# Altium integrated library Micron Memory Parallel NOR Flash.IntLib: 720 symbols (part 120 of 216)
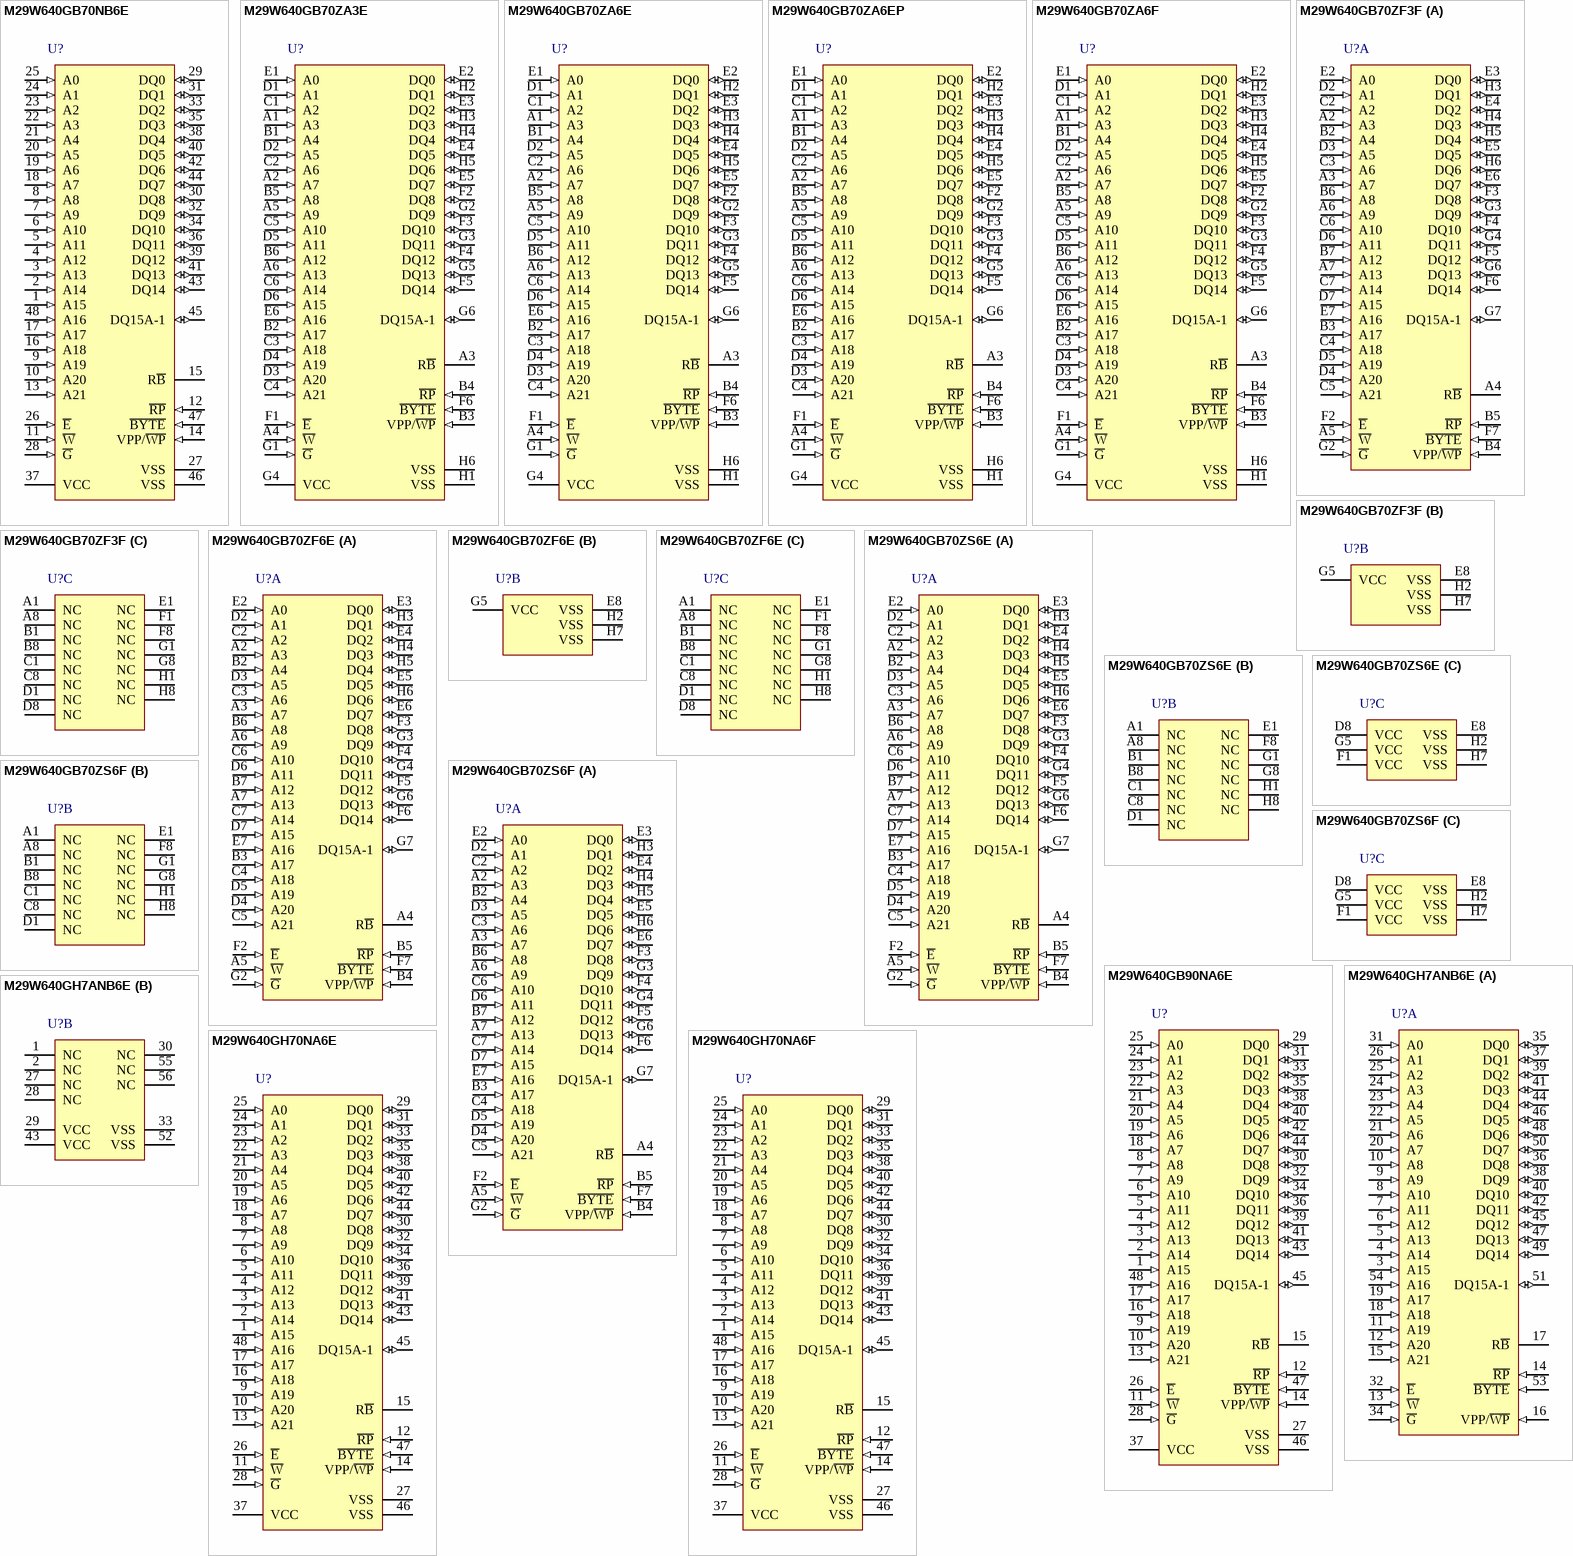
[diagram p163: symbols M29W640GB70NB6E to M29W640GH70NA6F]

## M29W640GB70ZF6E
designator U?
64 Mb (x8/x16) Parallel NOR Flash Memory, 70 ns, 2.7 to 3.6 V, 64-ball TBGA (ZF), Tray; Part Family: M29W; Manufacturer: Micron; PartNumber: M29W640GB70ZF6E; Density: 64Mb; Op Temp: -40C to +85C; Speed: 70ns; Voltage: 2.7V-3.6V; DatasheetVersion: Rev. 11; PackageVersion: Rev 11; PackageReference: MICT-ZF-64; PackageDescription: 64-Ball TBGA, 10 X 13 mm, Pitch 1 mm; RoHS: Yes; Width: x8/x16; Mounting Technology: Surface Mount; ComponentLink1Description: Manufacturer URL; ComponentLink1URL: http://www.micron.com/; ComponentLink2Description: Datasheet; ComponentLink2URL: http://www.micron.com/~/media/Documents/Products/Data%20Sheet/NOR%20Flash/Parallel/P33/208034_P33_65nm_SBC_64M_128M_Discrete_DS.pdf; ComponentLink3Description: Package Specification; ComponentLink3URL: http://www.micron.com/~/media/Documents/Products/Data%20Sheet/NOR%20Flash/Parallel/P33/208034_P33_65nm_SBC_64M_128M_Discrete_DS.pdf
footprint MICT-ZF-64 (BGA, 64-Balls, Body 13x10mm, Pitch 1mm)
part A pins: A2 A3 (in) "The Address Inputs select the cells in the memory array to access during bus read operations. During bus write operations they control the commands sent to the command interface of the program/erase controller.", A3 A7 (in) "The Address Inputs select the cells in the memory array to access during bus read operations. During bus write operations they control the commands sent to the command interface of the program/erase controller.", A4 R~{B} (hiz) "The ready/busy pin is an open-drain output that can be used to identify when the device is performing a program or erase operation. During program or erase operations ready/busy is Low, VOL (see Table 20: Status register (See Datasheet)", A5 ~{W} (in) "The Write Enable, W\, controls the bus write operation of the memory’s command interface.", A6 A9 (in) "The Address Inputs select the cells in the memory array to access during bus read operations. During bus write operations they control the commands sent to the command interface of the program/erase controller.", A7 A13 (in) "The Address Inputs select the cells in the memory array to access during bus read operations. During bus write operations they control the commands sent to the command interface of the program/erase controller.", B2 A4 (in) "The Address Inputs select the cells in the memory array to access during bus read operations. During bus write operations they control the commands sent to the command interface of the program/erase controller.", B3 A17 (in) "The Address Inputs select the cells in the memory array to access during bus read operations. During bus write operations they control the commands sent to the command interface of the program/erase controller.", B4 VPP/~{WP} (in) "The VPP/Write Protect pin provides two functions. The VPP function allows the memory to use an external high voltage power supply to reduce the time required for Unlock Bypass Program operations. The Write Protect function (See Datasheet)", B5 ~{RP} (in) "The reset pin can be used to apply a hardware reset to the memory. A hardware reset is achieved by holding reset Low, VIL, for at least tPLPX. After reset goes High, VIH, the memory will be ready for bus read and bus write (See Datasheet)", B6 A8 (in) "The Address Inputs select the cells in the memory array to access during bus read operations. During bus write operations they control the commands sent to the command interface of the program/erase controller.", B7 A12 (in) "The Address Inputs select the cells in the memory array to access during bus read operations. During bus write operations they control the commands sent to the command interface of the program/erase controller.", C2 A2 (in) "The Address Inputs select the cells in the memory array to access during bus read operations. During bus write operations they control the commands sent to the command interface of the program/erase controller.", C3 A6 (in) "The Address Inputs select the cells in the memory array to access during bus read operations. During bus write operations they control the commands sent to the command interface of the program/erase controller.", C4 A18 (in) "The Address Inputs select the cells in the memory array to access during bus read operations. During bus write operations they control the commands sent to the command interface of the program/erase controller.", C5 A21 (in) "The Address Inputs select the cells in the memory array to access during bus read operations. During bus write operations they control the commands sent to the command interface of the program/erase controller.", C6 A10 (in) "The Address Inputs select the cells in the memory array to access during bus read operations. During bus write operations they control the commands sent to the command interface of the program/erase controller.", C7 A14 (in) "The Address Inputs select the cells in the memory array to access during bus read operations. During bus write operations they control the commands sent to the command interface of the program/erase controller.", D2 A1 (in) "The Address Inputs select the cells in the memory array to access during bus read operations. During bus write operations they control the commands sent to the command interface of the program/erase controller.", D3 A5 (in) "The Address Inputs select the cells in the memory array to access during bus read operations. During bus write operations they control the commands sent to the command interface of the program/erase controller.", D4 A20 (in) "The Address Inputs select the cells in the memory array to access during bus read operations. During bus write operations they control the commands sent to the command interface of the program/erase controller.", D5 A19 (in) "The Address Inputs select the cells in the memory array to access during bus read operations. During bus write operations they control the commands sent to the command interface of the program/erase controller.", D6 A11 (in) "The Address Inputs select the cells in the memory array to access during bus read operations. During bus write operations they control the commands sent to the command interface of the program/erase controller.", D7 A15 (in) "The Address Inputs select the cells in the memory array to access during bus read operations. During bus write operations they control the commands sent to the command interface of the program/erase controller.", E2 A0 (in) "The Address Inputs select the cells in the memory array to access during bus read operations. During bus write operations they control the commands sent to the command interface of the program/erase controller.", E3 DQ0 (io) "The Data I/O outputs the data stored at the selected address during a bus read operation. During bus write operations they represent the commands sent to the command interface of the program/erase controller.", E4 DQ2 (io) "The Data I/O outputs the data stored at the selected address during a bus read operation. During bus write operations they represent the commands sent to the command interface of the program/erase controller.", E5 DQ5 (io) "The Data I/O outputs the data stored at the selected address during a bus read operation. During bus write operations they represent the commands sent to the command interface of the program/erase controller.", E6 DQ7 (io) "The Data I/O outputs the data stored at the selected address during a bus read operation. During bus write operations they represent the commands sent to the command interface of the program/erase controller.", E7 A16 (in) "The Address Inputs select the cells in the memory array to access during bus read operations. During bus write operations they control the commands sent to the command interface of the program/erase controller.", F2 ~{E} (in) "The Chip Enable, E\, activates the memory, allowing bus read and bus write operations to be performed. When Chip Enable is High, VIH, all other pins are ignored.", F3 DQ8 (io) "The Data I/O outputs the data stored at the selected address during a bus read operation when B\Y\T\E\ is High, VIH. When B\Y\T\E\ is Low, VIL, these pins are not used and are high impedance. During bus write operations the (See Datasheet)", F4 DQ10 (io) "The Data I/O outputs the data stored at the selected address during a bus read operation when B\Y\T\E\ is High, VIH. When B\Y\T\E\ is Low, VIL, these pins are not used and are high impedance. During bus write operations the (See Datasheet)", F5 DQ12 (io) "The Data I/O outputs the data stored at the selected address during a bus read operation when B\Y\T\E\ is High, VIH. When B\Y\T\E\ is Low, VIL, these pins are not used and are high impedance. During bus write operations the (See Datasheet)", F6 DQ14 (io) "The Data I/O outputs the data stored at the selected address during a bus read operation when B\Y\T\E\ is High, VIH. When B\Y\T\E\ is Low, VIL, these pins are not used and are high impedance. During bus write operations the (See Datasheet)", F7 ~{BYTE} (in) "The Byte/Word Organization Select pin is used to switch between the x8 and x16 bus modes of the memory. When Byte/Word Organization Select is Low, VIL, the memory is in x8 mode, when it is High, VIH, the memory is in x16 (See Datasheet)", G2 ~{G} (in) "The Output Enable, G\, controls the bus read operation of the memory.", G3 DQ9 (io) "The Data I/O outputs the data stored at the selected address during a bus read operation when B\Y\T\E\ is High, VIH. When B\Y\T\E\ is Low, VIL, these pins are not used and are high impedance. During bus write operations the (See Datasheet)", G4 DQ11 (io) "The Data I/O outputs the data stored at the selected address during a bus read operation when B\Y\T\E\ is High, VIH. When B\Y\T\E\ is Low, VIL, these pins are not used and are high impedance. During bus write operations the (See Datasheet)", G6 DQ13 (io) "The Data I/O outputs the data stored at the selected address during a bus read operation when B\Y\T\E\ is High, VIH. When B\Y\T\E\ is Low, VIL, these pins are not used and are high impedance. During bus write operations the (See Datasheet)", G7 DQ15A-1 (io) "When B\Y\T\E\ is High, VIH, this pin behaves as a Data Input/Output pin (as DQ8-DQ14). When BYTE is Low, VIL, this pin behaves as an address pin; DQ15A-1 Low will select the LSB of the addressed word, DQ15A-1 High will (See Datasheet)", H3 DQ1 (io) "The Data I/O outputs the data stored at the selected address during a bus read operation. During bus write operations they represent the commands sent to the command interface of the program/erase controller.", H4 DQ3 (io) "The Data I/O outputs the data stored at the selected address during a bus read operation. During bus write operations they represent the commands sent to the command interface of the program/erase controller.", H5 DQ4 (io) "The Data I/O outputs the data stored at the selected address during a bus read operation. During bus write operations they represent the commands sent to the command interface of the program/erase controller.", H6 DQ6 (io) "The Data I/O outputs the data stored at the selected address during a bus read operation. During bus write operations they represent the commands sent to the command interface of the program/erase controller."
part B pins: E8 VSS (power) "VSS is the reference for all voltage measurements. The device features two VSS pins both of which must be connected to the system ground.", G5 VCC (power) "VCC provides the power supply for all operations (read, program and erase). The command interface is disabled when the VCC supply voltage is less than the lockout voltage, VLKO. This prevents bus write operations from (See Datasheet)", H2 VSS (power) "VSS is the reference for all voltage measurements. The device features two VSS pins both of which must be connected to the system ground.", H7 VSS (power) "VSS is the reference for all voltage measurements. The device features two VSS pins both of which must be connected to the system ground."
part C pins: A1 NC "Not connected internally", A8 NC "Not connected internally", B1 NC "Not connected internally", B8 NC "Not connected internally", C1 NC "Not connected internally", C8 NC "Not connected internally", D1 NC "Not connected internally", D8 NC "Not connected internally", E1 NC "Not connected internally", F1 NC "Not connected internally", F8 NC "Not connected internally", G1 NC "Not connected internally", G8 NC "Not connected internally", H1 NC "Not connected internally", H8 NC "Not connected internally"

## M29W640GB70ZS6E
designator U?
64 Mb (x8/x16) Parallel NOR Flash Memory, 70 ns, 2.7 to 3.6 V, 64-ball FBGA (ZS), Tray; Part Family: M29W; Manufacturer: Micron; PartNumber: M29W640GB70ZS6E; Density: 64Mb; Op Temp: -40C to +85C; Speed: 70ns; Voltage: 2.7V-3.6V; DatasheetVersion: Rev. 11; PackageVersion: Rev. 11; PackageReference: MICT-ZS-64; PackageDescription: 64-Ball FBGA, 11 X 13 mm, Pitch 1 mm; RoHS: Yes; Width: x8/x16; Mounting Technology: Surface Mount; ComponentLink1Description: Manufacturer URL; ComponentLink1URL: http://www.micron.com/; ComponentLink2Description: Datasheet; ComponentLink2URL: http://www.micron.com/~/media/Documents/Products/Data%20Sheet/NOR%20Flash/Parallel/P33/208034_P33_65nm_SBC_64M_128M_Discrete_DS.pdf; ComponentLink3Description: Package Specification; ComponentLink3URL: http://www.micron.com/~/media/Documents/Products/Data%20Sheet/NOR%20Flash/Parallel/P33/208034_P33_65nm_SBC_64M_128M_Discrete_DS.pdf
footprint MICT-ZS-64 (BGA, 64-Balls, Body 13x11mm, Pitch 1mm)
part A pins: A2 A3 (in) "Address Input:The Address Input select the cells in the memory array to access during bus read operations. During bus write operations they control the commands sent to the command interface of the program/erase controller.", A3 A7 (in) "Address Input:The Address Input select the cells in the memory array to access during bus read operations. During bus write operations they control the commands sent to the command interface of the program/erase controller.", A4 R~{B} (hiz) "Ready/Busy Output:The Ready/Busy pin is an open-drain output that can be used to identify when the device is performing a program or erase operation. During program or erase operations Ready/Busy is Low, VOL. Ready/Busy is (See Datasheet)", A5 ~{W} (in) "Write Enable:The Write Enable, W\, controls the bus write operation of the memory’s command interface.", A6 A9 (in) "Address Input:The Address Input select the cells in the memory array to access during bus read operations. During bus write operations they control the commands sent to the command interface of the program/erase controller.", A7 A13 (in) "Address Input:The Address Input select the cells in the memory array to access during bus read operations. During bus write operations they control the commands sent to the command interface of the program/erase controller.", B2 A4 (in) "Address Input:The Address Input select the cells in the memory array to access during bus read operations. During bus write operations they control the commands sent to the command interface of the program/erase controller.", B3 A17 (in) "Address Input:The Address Input select the cells in the memory array to access during bus read operations. During bus write operations they control the commands sent to the command interface of the program/erase controller.", B4 VPP/~{WP} (in) "VPP/Write Protect:The VPP/Write Protect pin provides two functions. The VPP function allows the memory to use an external high voltage power supply to reduce the time required for Unlock Bypass Program operations. The Write (See Datasheet)", B5 ~{RP} (in) "Reset/Block Temporary Unprotect:The Reset/Block Temporary Unprotect pin can be used to apply a hardware reset to the memory or to temporarily unprotect all blocks that have been protected. Note that if VPP/W\P\ is at VIL, (See Datasheet)", B6 A8 (in) "Address Input:The Address Input select the cells in the memory array to access during bus read operations. During bus write operations they control the commands sent to the command interface of the program/erase controller.", B7 A12 (in) "Address Input:The Address Input select the cells in the memory array to access during bus read operations. During bus write operations they control the commands sent to the command interface of the program/erase controller.", C2 A2 (in) "Address Input:The Address Input select the cells in the memory array to access during bus read operations. During bus write operations they control the commands sent to the command interface of the program/erase controller.", C3 A6 (in) "Address Input:The Address Input select the cells in the memory array to access during bus read operations. During bus write operations they control the commands sent to the command interface of the program/erase controller.", C4 A18 (in) "Address Input:The Address Input select the cells in the memory array to access during bus read operations. During bus write operations they control the commands sent to the command interface of the program/erase controller.", C5 A21 (in) "Address Input:The Address Input select the cells in the memory array to access during bus read operations. During bus write operations they control the commands sent to the command interface of the program/erase controller.", C6 A10 (in) "Address Input:The Address Input select the cells in the memory array to access during bus read operations. During bus write operations they control the commands sent to the command interface of the program/erase controller.", C7 A14 (in) "Address Input:The Address Input select the cells in the memory array to access during bus read operations. During bus write operations they control the commands sent to the command interface of the program/erase controller.", D2 A1 (in) "Address Input:The Address Input select the cells in the memory array to access during bus read operations. During bus write operations they control the commands sent to the command interface of the program/erase controller.", D3 A5 (in) "Address Input:The Address Input select the cells in the memory array to access during bus read operations. During bus write operations they control the commands sent to the command interface of the program/erase controller.", D4 A20 (in) "Address Input:The Address Input select the cells in the memory array to access during bus read operations. During bus write operations they control the commands sent to the command interface of the program/erase controller.", D5 A19 (in) "Address Input:The Address Input select the cells in the memory array to access during bus read operations. During bus write operations they control the commands sent to the command interface of the program/erase controller.", D6 A11 (in) "Address Input:The Address Input select the cells in the memory array to access during bus read operations. During bus write operations they control the commands sent to the command interface of the program/erase controller.", D7 A15 (in) "Address Input:The Address Input select the cells in the memory array to access during bus read operations. During bus write operations they control the commands sent to the command interface of the program/erase controller.", E2 A0 (in) "Address Input:The Address Input select the cells in the memory array to access during bus read operations. During bus write operations they control the commands sent to the command interface of the program/erase controller.", E3 DQ0 (io) "Data Input/Output:The Data I/O outputs the data stored at the selected address during a bus read operation. During bus write operations they represent the commands sent to the command interface of the program/erase (See Datasheet)", E4 DQ2 (io) "Data Input/Output:The Data I/O outputs the data stored at the selected address during a bus read operation. During bus write operations they represent the commands sent to the command interface of the program/erase (See Datasheet)", E5 DQ5 (io) "Data Input/Output:The Data I/O outputs the data stored at the selected address during a bus read operation. During bus write operations they represent the commands sent to the command interface of the program/erase (See Datasheet)", E6 DQ7 (io) "Data Input/Output:The Data I/O outputs the data stored at the selected address during a bus read operation. During bus write operations they represent the commands sent to the command interface of the program/erase (See Datasheet)", E7 A16 (in) "Address Input:The Address Input select the cells in the memory array to access during bus read operations. During bus write operations they control the commands sent to the command interface of the program/erase controller.", F2 ~{E} (in) "Chip Enable:The Chip Enable, E\, activates the memory, allowing bus read and bus write operations to be performed. When Chip Enable is High, VIH, all other pins are ignored.", F3 DQ8 (io) "Data Input/Output:The Data I/O outputs the data stored at the selected address during a bus read operation when B\Y\T\E\ is High, VIH. When B\Y\T\E\ is Low, VIL, these pins are not used and are high impedance. During bus (See Datasheet)", F4 DQ10 (io) "Data Input/Output:The Data I/O outputs the data stored at the selected address during a bus read operation when B\Y\T\E\ is High, VIH. When B\Y\T\E\ is Low, VIL, these pins are not used and are high impedance. During bus (See Datasheet)", F5 DQ12 (io) "Data Input/Output:The Data I/O outputs the data stored at the selected address during a bus read operation when B\Y\T\E\ is High, VIH. When B\Y\T\E\ is Low, VIL, these pins are not used and are high impedance. During bus (See Datasheet)", F6 DQ14 (io) "Data Input/Output:The Data I/O outputs the data stored at the selected address during a bus read operation when B\Y\T\E\ is High, VIH. When B\Y\T\E\ is Low, VIL, these pins are not used and are high impedance. During bus (See Datasheet)", F7 ~{BYTE} (in) "Byte/Word Organization Select:The Byte/Word Organization Select pin is used to switch between the x8 and x16 bus modes of the memory. When Byte/Word Organization Select is Low, VIL, the memory is in x8 mode, when it is High, (See Datasheet)", G2 ~{G} (in) "Output Enable:The Output Enable, G\, controls the bus read operation of the memory.", G3 DQ9 (io) "Data Input/Output:The Data I/O outputs the data stored at the selected address during a bus read operation when BYTE is High, VIH. When B\Y\T\E\ is Low, VIL, these pins are not used and are high impedance. During bus write (See Datasheet)", G4 DQ11 (io) "Data Inputs/Outputs:The Data I/O outputs the data stored at the selected address during a bus read operation when BYTE is High, VIH. When B\Y\T\E\ is Low, VIL, these pins are not used and are high impedance. During bus write (See Datasheet)", G6 DQ13 (io) "Data Input/Output:The Data I/O outputs the data stored at the selected address during a bus read operation when BYTE is High, VIH. When B\Y\T\E\ is Low, VIL, these pins are not used and are high impedance. During bus write (See Datasheet)", G7 DQ15A-1 (io) "Data Input/Output or Address Input:When B\Y\T\E\ is High, VIH, this pin behaves as a Data Input/Output pin (as DQ8-DQ14). When B\Y\T\E\ is Low, VIL, this pin behaves as an address pin; DQ15A-1 Low will select the LSB of the (See Datasheet)", H3 DQ1 (io) "Data Input/Output:The Data I/O outputs the data stored at the selected address during a bus read operation. During bus write operations they represent the commands sent to the command interface of the program/erase (See Datasheet)", H4 DQ3 (io) "Data Input/Output:The Data I/O outputs the data stored at the selected address during a bus read operation. During bus write operations they represent the commands sent to the command interface of the program/erase (See Datasheet)", H5 DQ4 (io) "Data Input/Output:The Data I/O outputs the data stored at the selected address during a bus read operation. During bus write operations they represent the commands sent to the command interface of the program/erase (See Datasheet)", H6 DQ6 (io) "Data Input/Output:The Data I/O outputs the data stored at the selected address during a bus read operation. During bus write operations they represent the commands sent to the command interface of the program/erase (See Datasheet)"
part B pins: A1 NC "Not connected internally", A8 NC "Not connected internally", B1 NC "Not connected internally", B8 NC "Not connected internally", C1 NC "Not connected internally", C8 NC "Not connected internally", D1 NC "Not connected internally", E1 NC "Not connected internally", F8 NC "Not connected internally", G1 NC "Not connected internally", G8 NC "Not connected internally", H1 NC "Not connected internally", H8 NC "Not connected internally"
part C pins: D8 VCC (power) "VCC supply voltage:VCC provides the power supply for all operations (read, program and erase).The command interface is disabled when the VCC supply voltage is less than the lockout voltage, VLKO. This prevents bus write (See Datasheet)", E8 VSS (power) "VSS ground:VSS is the reference for all voltage measurements. The device features two VSS pins which must be both connected to the system ground.", F1 VCC (power) "VCC supply voltage:VCC provides the power supply for all operations (read, program and erase).The command interface is disabled when the VCC supply voltage is less than the lockout voltage, VLKO. This prevents bus write (See Datasheet)", G5 VCC (power) "VCC supply voltage:VCC provides the power supply for all operations (read, program and erase).The command interface is disabled when the VCC supply voltage is less than the lockout voltage, VLKO. This prevents bus write (See Datasheet)", H2 VSS (power) "VSS ground:VSS is the reference for all voltage measurements. The device features two VSS pins which must be both connected to the system ground.", H7 VSS (power) "VSS ground:VSS is the reference for all voltage measurements. The device features two VSS pins which must be both connected to the system ground."

## M29W640GB70ZS6F
designator U?
64 Mb (x8/x16) Parallel NOR Flash Memory, 70 ns, 2.7 to 3.6 V, 64-ball FBGA (ZS), Tape & Reel; Part Family: M29W; Manufacturer: Micron; PartNumber: M29W640GB70ZS6F; Density: 64Mb; Op Temp: -40C to +85C; Speed: 70ns; Voltage: 2.7V-3.6V; DatasheetVersion: Rev. 11; PackageVersion: Rev. 11; PackageReference: MICT-ZS-64; PackageDescription: 64-Ball FBGA, 11 X 13 mm, Pitch 1 mm; RoHS: Yes; Width: x8/x16; Mounting Technology: Surface Mount; ComponentLink1Description: Manufacturer URL; ComponentLink1URL: http://www.micron.com/; ComponentLink2Description: Datasheet; ComponentLink2URL: http://www.micron.com/~/media/Documents/Products/Data%20Sheet/NOR%20Flash/Parallel/P33/208034_P33_65nm_SBC_64M_128M_Discrete_DS.pdf; ComponentLink3Description: Package Specification; ComponentLink3URL: http://www.micron.com/~/media/Documents/Products/Data%20Sheet/NOR%20Flash/Parallel/P33/208034_P33_65nm_SBC_64M_128M_Discrete_DS.pdf
footprint MICT-ZS-64 (BGA, 64-Balls, Body 13x11mm, Pitch 1mm)
part A pins: A2 A3 (in) "Address Input:The Address Input select the cells in the memory array to access during bus read operations. During bus write operations they control the commands sent to the command interface of the program/erase controller.", A3 A7 (in) "Address Input:The Address Input select the cells in the memory array to access during bus read operations. During bus write operations they control the commands sent to the command interface of the program/erase controller.", A4 R~{B} (hiz) "Ready/Busy Output:The Ready/Busy pin is an open-drain output that can be used to identify when the device is performing a program or erase operation. During program or erase operations Ready/Busy is Low, VOL. Ready/Busy is (See Datasheet)", A5 ~{W} (in) "Write Enable:The Write Enable, W\, controls the bus write operation of the memory’s command interface.", A6 A9 (in) "Address Input:The Address Input select the cells in the memory array to access during bus read operations. During bus write operations they control the commands sent to the command interface of the program/erase controller.", A7 A13 (in) "Address Input:The Address Input select the cells in the memory array to access during bus read operations. During bus write operations they control the commands sent to the command interface of the program/erase controller.", B2 A4 (in) "Address Input:The Address Input select the cells in the memory array to access during bus read operations. During bus write operations they control the commands sent to the command interface of the program/erase controller.", B3 A17 (in) "Address Input:The Address Input select the cells in the memory array to access during bus read operations. During bus write operations they control the commands sent to the command interface of the program/erase controller.", B4 VPP/~{WP} (in) "VPP/Write Protect:The VPP/Write Protect pin provides two functions. The VPP function allows the memory to use an external high voltage power supply to reduce the time required for Unlock Bypass Program operations. The Write (See Datasheet)", B5 ~{RP} (in) "Reset/Block Temporary Unprotect:The Reset/Block Temporary Unprotect pin can be used to apply a hardware reset to the memory or to temporarily unprotect all blocks that have been protected. Note that if VPP/W\P\ is at VIL, (See Datasheet)", B6 A8 (in) "Address Input:The Address Input select the cells in the memory array to access during bus read operations. During bus write operations they control the commands sent to the command interface of the program/erase controller.", B7 A12 (in) "Address Input:The Address Input select the cells in the memory array to access during bus read operations. During bus write operations they control the commands sent to the command interface of the program/erase controller.", C2 A2 (in) "Address Input:The Address Input select the cells in the memory array to access during bus read operations. During bus write operations they control the commands sent to the command interface of the program/erase controller.", C3 A6 (in) "Address Input:The Address Input select the cells in the memory array to access during bus read operations. During bus write operations they control the commands sent to the command interface of the program/erase controller.", C4 A18 (in) "Address Input:The Address Input select the cells in the memory array to access during bus read operations. During bus write operations they control the commands sent to the command interface of the program/erase controller.", C5 A21 (in) "Address Input:The Address Input select the cells in the memory array to access during bus read operations. During bus write operations they control the commands sent to the command interface of the program/erase controller.", C6 A10 (in) "Address Input:The Address Input select the cells in the memory array to access during bus read operations. During bus write operations they control the commands sent to the command interface of the program/erase controller.", C7 A14 (in) "Address Input:The Address Input select the cells in the memory array to access during bus read operations. During bus write operations they control the commands sent to the command interface of the program/erase controller.", D2 A1 (in) "Address Input:The Address Input select the cells in the memory array to access during bus read operations. During bus write operations they control the commands sent to the command interface of the program/erase controller.", D3 A5 (in) "Address Input:The Address Input select the cells in the memory array to access during bus read operations. During bus write operations they control the commands sent to the command interface of the program/erase controller.", D4 A20 (in) "Address Input:The Address Input select the cells in the memory array to access during bus read operations. During bus write operations they control the commands sent to the command interface of the program/erase controller.", D5 A19 (in) "Address Input:The Address Input select the cells in the memory array to access during bus read operations. During bus write operations they control the commands sent to the command interface of the program/erase controller.", D6 A11 (in) "Address Input:The Address Input select the cells in the memory array to access during bus read operations. During bus write operations they control the commands sent to the command interface of the program/erase controller.", D7 A15 (in) "Address Input:The Address Input select the cells in the memory array to access during bus read operations. During bus write operations they control the commands sent to the command interface of the program/erase controller.", E2 A0 (in) "Address Input:The Address Input select the cells in the memory array to access during bus read operations. During bus write operations they control the commands sent to the command interface of the program/erase controller.", E3 DQ0 (io) "Data Input/Output:The Data I/O outputs the data stored at the selected address during a bus read operation. During bus write operations they represent the commands sent to the command interface of the program/erase (See Datasheet)", E4 DQ2 (io) "Data Input/Output:The Data I/O outputs the data stored at the selected address during a bus read operation. During bus write operations they represent the commands sent to the command interface of the program/erase (See Datasheet)", E5 DQ5 (io) "Data Input/Output:The Data I/O outputs the data stored at the selected address during a bus read operation. During bus write operations they represent the commands sent to the command interface of the program/erase (See Datasheet)", E6 DQ7 (io) "Data Input/Output:The Data I/O outputs the data stored at the selected address during a bus read operation. During bus write operations they represent the commands sent to the command interface of the program/erase (See Datasheet)", E7 A16 (in) "Address Input:The Address Input select the cells in the memory array to access during bus read operations. During bus write operations they control the commands sent to the command interface of the program/erase controller.", F2 ~{E} (in) "Chip Enable:The Chip Enable, E\, activates the memory, allowing bus read and bus write operations to be performed. When Chip Enable is High, VIH, all other pins are ignored.", F3 DQ8 (io) "Data Input/Output:The Data I/O outputs the data stored at the selected address during a bus read operation when B\Y\T\E\ is High, VIH. When B\Y\T\E\ is Low, VIL, these pins are not used and are high impedance. During bus (See Datasheet)", F4 DQ10 (io) "Data Input/Output:The Data I/O outputs the data stored at the selected address during a bus read operation when B\Y\T\E\ is High, VIH. When B\Y\T\E\ is Low, VIL, these pins are not used and are high impedance. During bus (See Datasheet)", F5 DQ12 (io) "Data Input/Output:The Data I/O outputs the data stored at the selected address during a bus read operation when B\Y\T\E\ is High, VIH. When B\Y\T\E\ is Low, VIL, these pins are not used and are high impedance. During bus (See Datasheet)", F6 DQ14 (io) "Data Input/Output:The Data I/O outputs the data stored at the selected address during a bus read operation when B\Y\T\E\ is High, VIH. When B\Y\T\E\ is Low, VIL, these pins are not used and are high impedance. During bus (See Datasheet)", F7 ~{BYTE} (in) "Byte/Word Organization Select:The Byte/Word Organization Select pin is used to switch between the x8 and x16 bus modes of the memory. When Byte/Word Organization Select is Low, VIL, the memory is in x8 mode, when it is High, (See Datasheet)", G2 ~{G} (in) "Output Enable:The Output Enable, G\, controls the bus read operation of the memory.", G3 DQ9 (io) "Data Input/Output:The Data I/O outputs the data stored at the selected address during a bus read operation when BYTE is High, VIH. When B\Y\T\E\ is Low, VIL, these pins are not used and are high impedance. During bus write (See Datasheet)", G4 DQ11 (io) "Data Inputs/Outputs:The Data I/O outputs the data stored at the selected address during a bus read operation when BYTE is High, VIH. When B\Y\T\E\ is Low, VIL, these pins are not used and are high impedance. During bus write (See Datasheet)", G6 DQ13 (io) "Data Input/Output:The Data I/O outputs the data stored at the selected address during a bus read operation when BYTE is High, VIH. When B\Y\T\E\ is Low, VIL, these pins are not used and are high impedance. During bus write (See Datasheet)", G7 DQ15A-1 (io) "Data Input/Output or Address Input:When B\Y\T\E\ is High, VIH, this pin behaves as a Data Input/Output pin (as DQ8-DQ14). When B\Y\T\E\ is Low, VIL, this pin behaves as an address pin; DQ15A-1 Low will select the LSB of the (See Datasheet)", H3 DQ1 (io) "Data Input/Output:The Data I/O outputs the data stored at the selected address during a bus read operation. During bus write operations they represent the commands sent to the command interface of the program/erase (See Datasheet)", H4 DQ3 (io) "Data Input/Output:The Data I/O outputs the data stored at the selected address during a bus read operation. During bus write operations they represent the commands sent to the command interface of the program/erase (See Datasheet)", H5 DQ4 (io) "Data Input/Output:The Data I/O outputs the data stored at the selected address during a bus read operation. During bus write operations they represent the commands sent to the command interface of the program/erase (See Datasheet)", H6 DQ6 (io) "Data Input/Output:The Data I/O outputs the data stored at the selected address during a bus read operation. During bus write operations they represent the commands sent to the command interface of the program/erase (See Datasheet)"
part B pins: A1 NC "Not connected internally", A8 NC "Not connected internally", B1 NC "Not connected internally", B8 NC "Not connected internally", C1 NC "Not connected internally", C8 NC "Not connected internally", D1 NC "Not connected internally", E1 NC "Not connected internally", F8 NC "Not connected internally", G1 NC "Not connected internally", G8 NC "Not connected internally", H1 NC "Not connected internally", H8 NC "Not connected internally"
part C pins: D8 VCC (power) "VCC supply voltage:VCC provides the power supply for all operations (read, program and erase).The command interface is disabled when the VCC supply voltage is less than the lockout voltage, VLKO. This prevents bus write (See Datasheet)", E8 VSS (power) "VSS ground:VSS is the reference for all voltage measurements. The device features two VSS pins which must be both connected to the system ground.", F1 VCC (power) "VCC supply voltage:VCC provides the power supply for all operations (read, program and erase).The command interface is disabled when the VCC supply voltage is less than the lockout voltage, VLKO. This prevents bus write (See Datasheet)", G5 VCC (power) "VCC supply voltage:VCC provides the power supply for all operations (read, program and erase).The command interface is disabled when the VCC supply voltage is less than the lockout voltage, VLKO. This prevents bus write (See Datasheet)", H2 VSS (power) "VSS ground:VSS is the reference for all voltage measurements. The device features two VSS pins which must be both connected to the system ground.", H7 VSS (power) "VSS ground:VSS is the reference for all voltage measurements. The device features two VSS pins which must be both connected to the system ground."